# EAGLE library part IRF7319PBF (library Infineon)
MOSFET 20V DUAL N-CH HEXFET 58mOhms 22nC
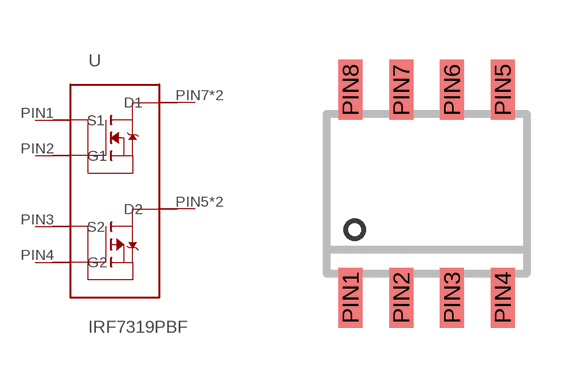
[diagram p0: symbol with the pads of SO-08; footprint SO-08]

Designator prefix -

## IRF7319PBF (MF: Infineon Technologies; MPN: IRF7319PbF)  [SO-08]
PIN1  S1
PIN2  G1
PIN3  S2
PIN4  G2
PIN5  D2
PIN6  D2
PIN7  D1
PIN8  D1

## Footprint SO-08 (pad centres in mm)
smd 0.6 x 1.5: PIN1 -1.905,-2.6; PIN2 -0.635,-2.6; PIN3 0.635,-2.6; PIN4 1.905,-2.6; PIN5 1.905,2.6; PIN6 0.635,2.6; PIN7 -0.635,2.6; PIN8 -1.905,2.6